# Altium schematic symbol library pressure_opto.SchLib: 12 symbols
Pins are listed as number, name and electrical type; pins without a type are passive.

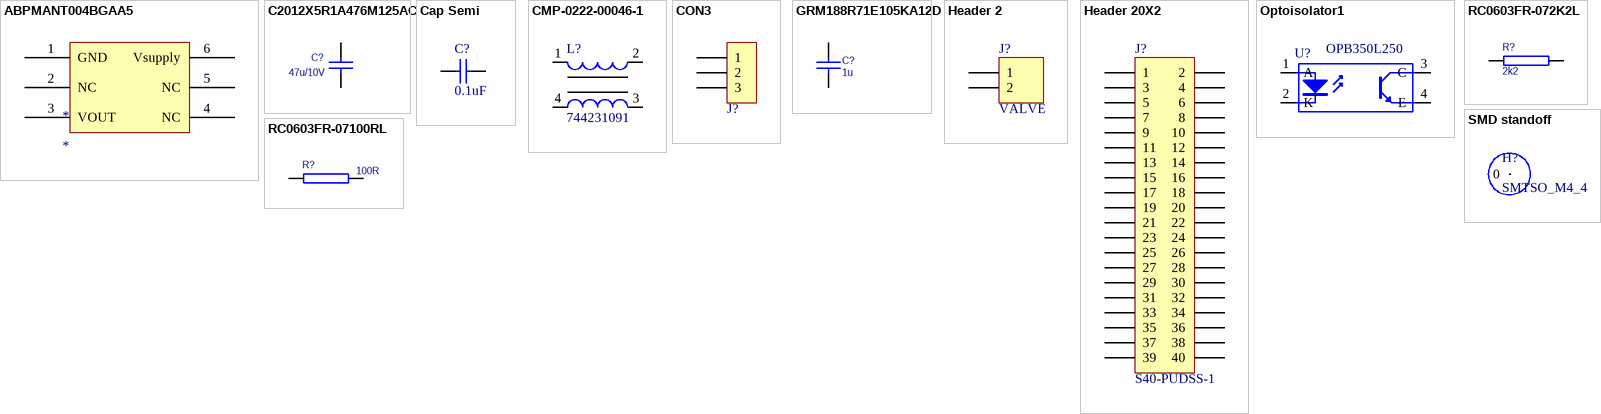
[diagram p0: symbols ABPMANT004BGAA5 to SMD standoff]

## ABPMANT004BGAA5
designator *
pins: 1 GND, 2 NC, 3 VOUT, 4 NC, 5 NC, 6 Vsupply

## C2012X5R1A476M125AC
designator C?, comment 47u/10V
Capacitor, Ceramic, 10V, ±20%, X5R, -55°C to 85°C; 02 Part Number: C2012X5R1A476M125AC; 08 Manufacturer: TDK; 04 Value: 47u; 06 Package: 0805; 05 Footprint Type: SMD; 03 Description: Capacitor, Ceramic, 10V, ±20%, X5R, -55°C to 85°C; 01 Part Category: Capacitor; 09 Digikey PN: 445-8239-2-ND; ComponentLink1Description: Datasheet; ComponentLink1URL: L:\Datasheet\Capacitor\mlcc_commercial_general_en.pdf
footprint CAPC2012X13N(0805) (Chip Capacitor 0805, 2-Leads, Body 2.0x1.3mm, H1.3mm, IPC Medium Density)
pins: 1, 2

## Cap Semi
designator C?  value 0.1uF  (hidden comment: Cap Semi)
Capacitor (Semiconductor SIM Model); Published: 8-Jun-2000; LatestRevisionDate: 29-May-2009; LatestRevisionNote: IPC-7351 Footprint Added.; PackageReference: C1206; Publisher: Altium Limited; PackageDescription: Chip Capacitor
footprint C0805 (Chip Capacitor, Body 2.0x1.3mm, IPC High Density)
footprint 0402 (Chip Capacitor, Body 1.0x0.5mm, IPC High Density)
footprint C2512 (Chip Capacitor, Body 2.54x1.27mm, IPC High Density)
footprint 1608[0603] (Chip Capacitor, Body 1.6x0.8mm, IPC High Density)
footprint C1210 (Chip Capacitor, Body 3.2x2.5mm, IPC High Density)
simulation model CAP (Semiconductor Capacitor)
signal-integrity model Cap Semi
pins: 1, 2

## CMP-0222-00046-1
designator L?, comment 744231091
SMD Common Mode Noise Suppressor WE-CNSW, Z = 90 Ohm; Impedance: 90 Ohm; PackageReference: WE-CNSW-0805; DatasheetVersion: ver 4, Nov-2010; ComponentLink1URL: http://www.we-online.com; ComponentLink1Description: Manufacturer Link; PackageDescription: SMD Inductor, 4-Leads, Body 1.4 x 2.2 mm; ComponentLink2Description: Datasheet; ComponentLink2URL: http://www.we-online.de/katalog/media/pdf/744231091.pdf; PackageVersion: 2010
footprint WE-CNSW-0805 (SMD Inductor, 4-Leads, Body 1.4x2.2x1.4 mm)
pins: 1, 2, 3, 4

## CON3
designator J?  (value not drawn)
CON; Part: Boxed Pin Header 3x1 2.5mm; MFR 1: JST; MFR 1 PN: B03B-XASK-1(LF)(SN); Supplier 1: DigiKey; Supplier 1 PN: 455-1990-ND
footprint XA3 (Footprint not found)
pins: 1, 2, 3

## GRM188R71E105KA12D
designator C?, comment 1u
Capacitor, Ceramic, 25V, ±10%, X7R, -55°C to 125°C; 02 Part Number: GRM188R71E105KA12D; 08 Manufacturer: Murata Electronics North America; 06 Package: 0603; 12 Author: D.Grace; 05 Footprint Type: SMD; 03 Description: Capacitor, Ceramic, 25V, ±10%, X7R, -55°C to 125°C; 04 Value: 1u; 01 Part Category: Capacitor; 09 Digikey PN: 490-5307-2-ND; ComponentLink1Description: Datasheet; ComponentLink1URL: L:\Datasheet\Capacitor\c02e.pdf
footprint CAPC1608X09N(0603) (Chip Capacitor 0603, 2-Leads, Body 1.7x0.8mm, H0.9mm, IPC Medium Density)
pins: 1, 2

## Header 2
designator J?, comment VALVE
Header, 2-Pin; LatestRevisionDate: 17-Jul-2002; LatestRevisionNote: Re-released for DXP Platform.; Publisher: Altium Limited
footprint 2pin_2.54mm
signal-integrity model Connector
footprint XA2
pins: 1, 2

## Header 20X2
designator J?, comment S40-PUDSS-1
Header, 20-Pin, Dual row; LatestRevisionDate: 17-Jul-2002; LatestRevisionNote: Re-released for DXP Platform.; Publisher: Altium Limited
footprint SMTC-LTMM-120-02-X-D-RA (Shrouded Header & Stacker, 2x20 Pins, Right Angle, 2mm Pitch, Male)
signal-integrity model Connector
footprint S40B-PUDSS-1 (JST - PUD Connector 20x2 Right Angle)
pins: 1, 2, 3, 4, 5, 6, 7, 8, 9, 10, 11, 12, 13, 14, 15, 16, 17, 18, 19, 20, 21, 22, 23, 24, 25, 26, 27, 28, 29, 30, 31, 32, 33, 34, 35, 36, 37, 38, 39, 40

## Optoisolator1
designator U?, comment OPB350L250
4-Pin Phototransistor Optocoupler; Published: 24-Mar-1999; LatestRevisionDate: 04-Mar-2005; LatestRevisionNote: Sch pins 3 & 4 Swapped.; DatasheetVersion: Nov-2003; PackageReference: DIP-4; Publisher: Altium Limited
footprint OPB350W250Z
pins: 1 A "Anode", 2 K "Cathode", 3 C "Collector", 4 E "Emitter"

## RC0603FR-072K2L
designator R?, comment 2k2
Resistor, Thick Film, 0.1W, ±1%, ±100ppm/°C; 02 Part Number: RC0603FR-072K2L; 08 Manufacturer: Yageo; 13 Reviewed By: P.Moutzouris; 06 Package: 0603; 12 Author: D.Grace; 05 Footprint Type: SMD; 03 Description: Resistor, Thick Film, 0.1W, ±1%, ±100ppm/°C; 04 Value: 2k2; 09 Digikey PN: 311-2.20KHRTR-ND; 01 Part Category: Resistor; ComponentLink1Description: Datasheet; ComponentLink1URL: L:\Datasheet\Resistor\PYu-RC0603_51_RoHS_L_4.pdf
footprint RESC1608X06N(0603) (Chip Resistor 0603, 2-Leads, Body 1.6x0.8mm, IPC Medium Density)
pins: 1, 2

## RC0603FR-07100RL
designator R?, comment 100R
Resistor, Thick Film, 0.1W, ±1%, ±100ppm/°C; 02 Part Number: RC0603FR-07100RL; 08 Manufacturer: Yageo; 13 Reviewed By: P.Moutzouris; 06 Package: 0603; 12 Author: D.Grace; 05 Footprint Type: SMD; 03 Description: Resistor, Thick Film, 0.1W, ±1%, ±100ppm/°C; 04 Value: 100R; 09 Digikey PN: 311-100HRTR-ND; 01 Part Category: Resistor; ComponentLink1Description: Datasheet; ComponentLink1URL: L:\Datasheet\Resistor\PYu-RC0603_51_RoHS_L_4.pdf
footprint RESC1608X06N(0603) (Chip Resistor 0603, 2-Leads, Body 1.6x0.8mm, IPC Medium Density)
pins: 1, 2

## SMD standoff
designator H?, comment SMTSO_M4_4
SMD Standoff M4_4mm
footprint SMTSO_M4_4 (SMT Standoff Thread M4, 4mm height)
pins: ?1 0